# Altium footprint library StandartComponents.PcbLib: 11 footprints
Each footprint in its own frame and in the unit in brackets; x right, y up, seen from the top. Pads: shape width x height; smd on the part's side, far side on the other; paste and mask are expansions set on the pad; w line width, h text height; cw(c..) or ccw(c..) is an arc to the next point about the centre after c.
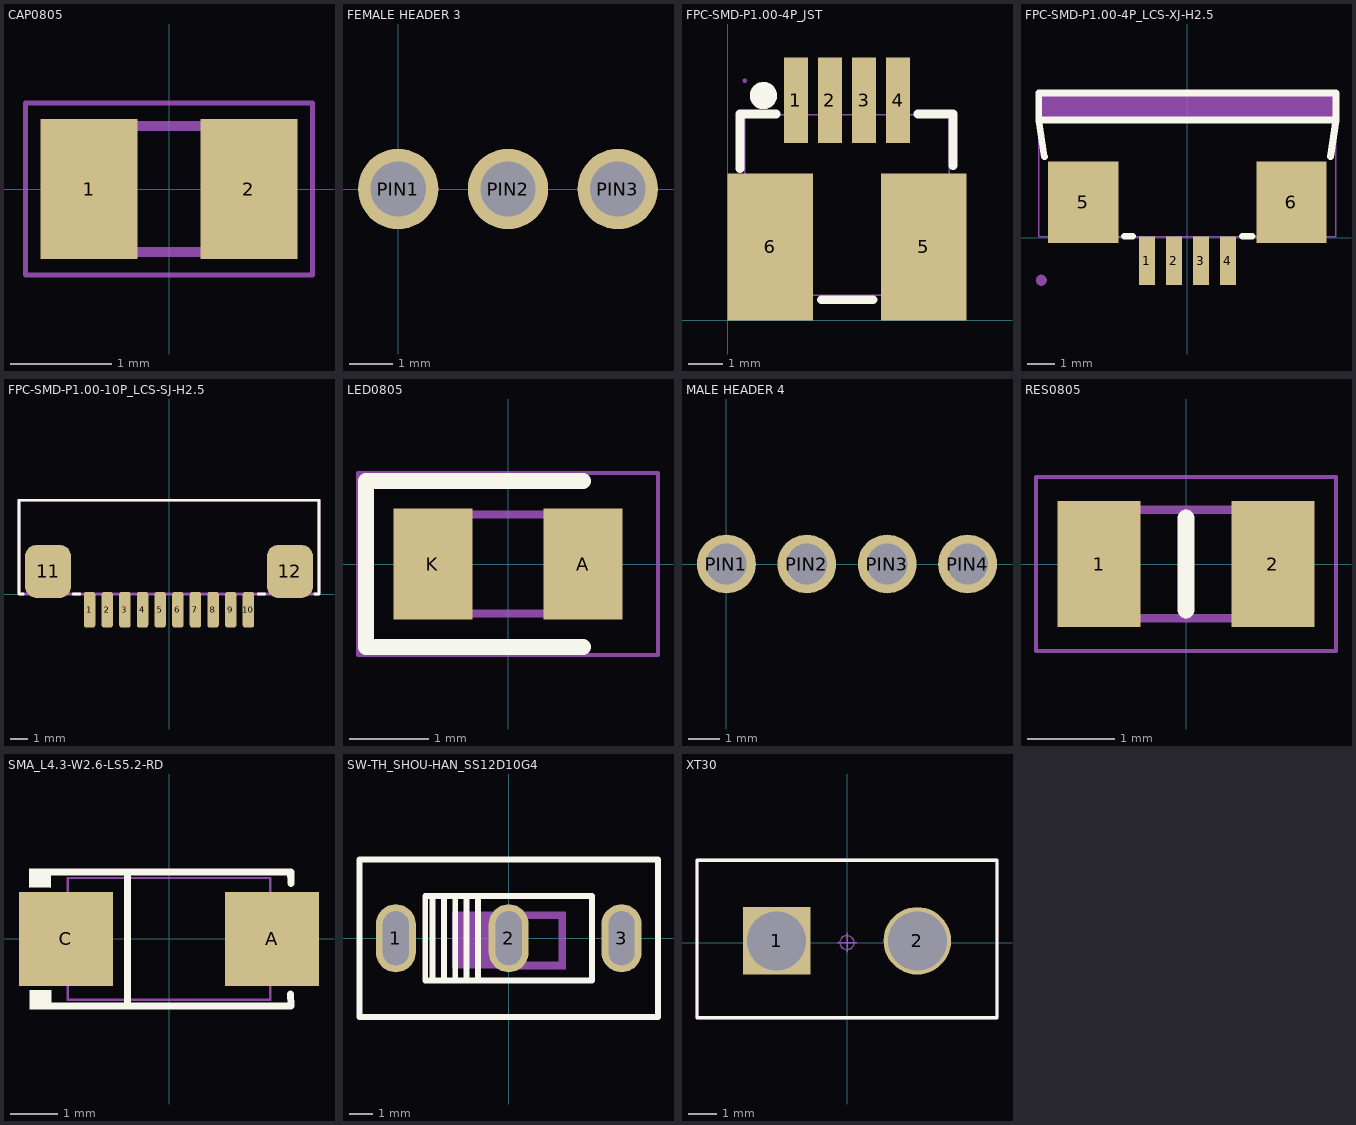
[diagram p0: the footprints below, top view; thin cyan lines are the x and y axes]

## CAP0805 [mm]
pads (2):
  rect 0.96x1.39 smd: 1(-0.79,0) 2(0.79,0)
Mechanical 15:
  lines w0.1: -1,-0.625 -1,0.625 1,0.625 1,-0.625 -1,-0.625
Mechanical 20:
  lines w0.05: -1.42,-0.85 -1.42,0.85 1.42,0.85 1.42,-0.85 -1.42,-0.85
3D body "CC0805KRX7R9BB104.stp": height 0.95, standoff 0, extent -1,-0.625 1,0.625

## FEMALE HEADER 3 [mm]
pads (3):
  round 1.86 hole 1.28: PIN1(0,0) PIN2(2.54,0) PIN3(5.08,0)
3D body "User Library-zl262-3s_p2-54_l8-12_w2-54_h8-5.STEP": height 8.5, standoff -3, extent -1.52,-1.27 6.6,1.27

## FPC-SMD-P1.00-4P_JST [mm]
pads (6):
  rect 0.7x2.5 smd paste+0 mask+0.051: 1(2,6.45) 2(3,6.45) 3(4,6.45) 4(5,6.45)
  rect 2.5x4.3 smd paste+0 mask+0.051: 5(5.75,2.15) 6(1.25,2.15)
Top Overlay:
  circle w0.4: c1.05,6.59 r0.2
  lines w0.254: 0.36,4.45 0.36,6.05 1.418,6.05 ; 2.75,0.6 4.27,0.6 ; 5.581,6.05 6.61,6.05 6.61,4.531
Mechanical 6:
  circle w0.4: c1.05,6.59 r0.2
Mechanical 15:
  region: 0.56,7.03 0.56,7.055 0.525,7.09 0.475,7.09 0.44,7.055 0.44,7.03 0.44,7.005 0.475,6.97 0.524,6.97 0.56,7.005
  region: 4.825,7.03 5.175,7.03 5.175,5.53 4.825,5.53
  region: 3.825,7.03 4.175,7.03 4.175,5.53 3.825,5.53
  region: 2.825,7.03 3.175,7.03 3.175,5.53 2.825,5.53
  region: 1.825,7.03 2.175,7.03 2.175,5.53 1.825,5.53
  region: 5,3.55 6.5,3.55 6.5,0.75 5,0.75
  region: 0.5,3.55 2,3.55 2,0.75 0.5,0.75
  lines w0.051: 0.5,0.73 6.5,0.73 6.5,6.03 0.5,6.03 0.5,0.73
3D body "1225124p.stp": height 2.3, standoff 0.05, extent -0.764,0.251 7.836,6.751

## FPC-SMD-P1.00-4P_LCS-XJ-H2.5 [mm]
pads (6):
  rect 0.6x1.8 smd paste+0 mask+0.05: 1(-1.486,-0.863) 2(-0.486,-0.863) 3(0.514,-0.863) 4(1.514,-0.863)
  rect 2.6x3 smd paste+0 mask+0.05: 5(-3.838,1.305) 6(3.862,1.305)
Top Overlay:
  lines w0.254: -5.28,2.988 -5.488,4.346 ; -2.307,0.046 -2.017,0.046 ; 2.045,0.046 2.412,0.046 ; 5.304,2.988 5.512,4.346 ; -5.488,4.346 -5.488,5.346 5.512,5.346 5.512,4.346 ; -5.488,4.346 5.512,4.346
Mechanical 6:
  region: 5.512,5.371 5.512,4.371 -5.488,4.371 -5.488,5.321
Mechanical 15:
  region: 1.639,0.046 1.389,0.046 1.389,-1.423 1.639,-1.423
  region: 0.639,0.046 0.389,0.046 0.389,-1.423 0.639,-1.423
  region: -0.361,0.046 -0.611,0.046 -0.611,-1.423 -0.361,-1.423
  region: -4.788,0.027 -2.888,0.027 -2.888,2.577 -4.788,2.577
  region: 2.912,0.027 4.812,0.027 4.812,2.577 2.912,2.577
  region: -1.361,0.046 -1.611,0.046 -1.611,-1.423 -1.361,-1.423
  region: -5.188,-1.578 -5.188,-1.538 -5.218,-1.465 -5.275,-1.408 -5.348,-1.378 -5.428,-1.378 -5.501,-1.408 -5.558,-1.465 -5.588,-1.538 -5.588,-1.578 -5.588,-1.618 -5.558,-1.691 -5.501,-1.747 -5.428,-1.778 -5.348,-1.778 -5.275,-1.748 -5.218,-1.691 -5.188,-1.618
  lines w0.051: -5.488,0.027 5.512,0.027 5.512,5.327 -5.488,5.327 -5.488,0.027

## FPC-SMD-P1.00-10P_LCS-SJ-H2.5 [mm] "Drawer Type 10P Contact,Top Horizontal attachment 1mm SMD,P=1mm,Surface Mount，Right Angle FFC, FPC (Flat Flexible) Connector Assemblies ROHS"
height 2.5
pads (12):
  rrect49% 0.65x2.032 smd: 1(-4.5,-0.889) 2(-3.5,-0.889) 3(-2.5,-0.889) 4(-1.5,-0.889) 5(-0.5,-0.889) 6(0.5,-0.889) 7(1.5,-0.889) 8(2.5,-0.889) 9(3.5,-0.889) 10(4.5,-0.889)
  rrect49% 2.601x3 smd: 11(-6.85,1.285) 12(6.85,1.285)
Top Overlay:
  lines w0.15: -8.255,0 -8.499,0 -8.499,5.311 8.499,5.311 8.499,0 8.255,0 ; -5.42,0 -5.05,0 ; 5.05,0 5.42,0
Mechanical 15:
  lines w0.15: -8.499,0 -8.499,5.311 8.499,5.311 8.499,0 -8.499,0
3D body "10870.stp": height 2.36, standoff -0.22, extent -8.893,-1.089 9.017,5.461

## LED0805 [mm]
pads (2):
  rect 1x1.4 smd: A(0.95,0) K(-0.95,0)
Top Overlay:
  lines w0.2: 0.95,-1.05 -1.8,-1.05 -1.8,1.05 0.95,1.05
Mechanical 15:
  lines w0.1: -1,0.208 -0.583,0.625 ; -1,-0.625 -1,0.625 1,0.625 1,-0.625 -1,-0.625
Mechanical 20:
  lines w0.05: -1.9,-1.15 -1.9,1.15 1.9,1.15 1.9,-1.15 -1.9,-1.15
3D body "0805W8F3301T5E.stp": height 0.31, standoff -0.28, extent -1,-0.625 1,0.625

## MALE HEADER 4 [mm]
pads (4):
  round 1.86 hole 1.28: PIN1(0,0) PIN2(2.54,0) PIN3(5.08,0) PIN4(7.62,0)
3D body "User Library-1x4 TH Pitch 2_54mm.STEP": height 8.7, standoff -4, extent -1.27,-1.397 8.89,1.143

## RES0805 [mm]
pads (2):
  rect 0.95x1.45 smd: 1(-1,0) 2(1,0)
Top Overlay:
  lines w0.2: 0,-0.525 0,0.525
Mechanical 13:
  lines w0.1: -1.025,-0.625 -1.025,0.625 1.025,0.625 1.025,-0.625 -1.025,-0.625
Mechanical 15:
  lines w0.05: -1.725,-1 -1.725,1 1.725,1 1.725,-1 -1.725,-1
3D body "CRCW080547K0FKEA.stp": height 0.5, standoff 0, extent -1.025,-0.625 1.025,0.625

## SMA_L4.3-W2.6-LS5.2-RD [mm]
pads (2):
  rect 2x2 smd paste+0 mask+0.051: A(2.2,0) C(-2.2,0)
Top Overlay:
  region: -2.512,-1.096 -2.513,-1.503 -2.973,-1.498 -2.969,-1.096
  region: -2.52,1.502 -2.521,1.096 -2.981,1.1 -2.977,1.502
  lines w0.152: -2.596,-1.426 2.596,-1.426 ; -2.596,1.426 2.596,1.426 2.603,1.187 ; -0.884,-1.426 -0.884,1.426 ; 2.593,-1.176 2.6,-1.415
Mechanical 6:
  region: 2.014,-0.675 2.014,0.675 1.811,0.675 1.811,-0.675
  region: 2.29,-0.09 2.29,0.112 1.48,0.112 1.48,-0.09
  region: -2.317,-0.101 -2.317,0.101 -1.507,0.101 -1.507,-0.101
Mechanical 15:
  region: -1.48,0.725 -1.48,-0.725 -2.605,-0.725 -2.605,0.725
  region: 2.605,0.725 2.605,-0.725 1.48,-0.725 1.48,0.725
  region: -2.545,-1.3 -2.546,-1.275 -2.58,-1.241 -2.629,-1.241 -2.664,-1.275 -2.665,-1.3 -2.664,-1.324 -2.63,-1.359 -2.581,-1.359 -2.546,-1.324
  lines w0.051: -2.16,-1.3 2.16,-1.3 2.16,1.3 -2.16,1.3 -2.16,-1.3
3D body "User Library-DO-214AC(SMA).STEP": height 2.29, standoff 0.01, extent -2.743,-1.397 2.743,1.397

## SW-TH_SHOU-HAN_SS12D10G4 [mm]
pads (3):
  oval 1.7x2.9 hole 1.1 slot 2.3 at 90 deg paste-2539.97 mask+0.05: 1(-4.8,0) 2(0,0) 3(4.8,0)
Top Overlay:
  lines w0.254: -3.242,-1.8 -3.233,-1.8 -3.233,1.8 ; -2.762,-1.8 -2.753,-1.8 -2.753,1.8 ; -2.283,-1.8 -2.273,-1.8 -2.273,1.8 ; -1.803,-1.8 -1.793,-1.8 -1.793,1.8 ; -1.314,1.8 -1.314,-1.8 -1.257,-1.8 ; 2.317,1.8 2.74,1.8 ; 2.45,1.8 -3.55,1.8 -3.55,-1.8 3.55,-1.8 3.55,1.3 3.55,1.8 2.55,1.8 ; -6.35,-3.35 -6.35,3.35 6.35,3.35 6.35,-3.35 -6.35,-3.35
Mechanical 6:
  region: -2.4,1.13 0,1.13 0,-1.27 -2.4,-1.27
  region: -0.013,1.129 2.387,1.129 2.425,1.129 2.425,0.826 -0.015,0.826 -0.015,0.926
  region: 2.124,-1.311 2.124,1.089 2.124,1.127 2.428,1.127 2.428,-1.313 2.327,-1.313
  region: -0.021,-1.007 2.379,-1.007 2.417,-1.007 2.417,-1.311 -0.023,-1.311 -0.023,-1.21
  region: -0.019,-1.301 -0.019,1.099 -0.019,1.137 0.284,1.137 0.284,-1.303 0.184,-1.303
Mechanical 15:
  region: -6.29,-3.35 -6.29,-3.325 -6.325,-3.29 -6.375,-3.29 -6.41,-3.325 -6.41,-3.35 -6.41,-3.375 -6.375,-3.41 -6.325,-3.41 -6.29,-3.375
  region: -5.2,0.65 -4.4,0.65 -4.4,-0.65 -5.2,-0.65
  region: -0.4,0.65 0.4,0.65 0.4,-0.65 -0.4,-0.65
  region: 4.4,0.65 5.2,0.65 5.2,-0.65 4.4,-0.65
  lines w0.051: -6.35,-3.35 -6.35,3.35 6.35,3.35 6.35,-3.35 -6.35,-3.35
3D body "xb-ss-12d10ll-t.stp": height 13.36, standoff -18.25, extent -6.35,-3.436 6.35,3.464

## XT30 [mm] "Header, Vertical, 2.54 mm pitch; 0.66 mm lead width, 5 pins, 1 row, 5 pins per row, 12.70 mm L X 2.49 mm W X 9.02 mm H body"
height 9.02
pads (2):
  rect 2.4x2.4 hole 2.1 paste-2539.97: 1(-2.5,0.063)
  round 2.4 hole 2.1 paste-2539.97: 2(2.5,0.063)
Top Overlay:
  lines w0.12: -5.334,-2.667 -5.334,2.921 5.334,2.921 5.334,-2.667 -5.334,-2.667
Mechanical 11:
  lines w0.12: -5.334,-2.667 -5.334,2.921 5.334,2.921 5.334,-2.667 -5.334,-2.667
Mechanical 12:
  lines w0.025: -5.334,-2.667 -5.334,2.921 5.334,2.921 5.334,-2.667 -5.334,-2.667
Mechanical 15:
  circle w0.05: c0,0 r0.25
  lines w0.05: -0.35,0 0.35,0 ; 0,-0.35 0,0.35 ; -5.334,-2.667 5.334,-2.667 5.334,2.921 -5.334,2.921 -5.334,-2.667
Mechanical 16:
  text ".Designator" at 0,0 h1.2
3D body "User Library-xt30upb-m.STEP": height 9.4, standoff -2, extent -5.12,-2.473 5.08,2.727